# Altium schematic symbol library VARICAP,Dual,CC,SOT-23.Schlib: 1 symbol
Pins are listed as number, name and electrical type; pins without a type are passive.

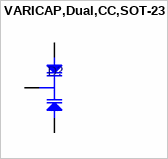
[diagram p0: symbol VARICAP,Dual,CC,SOT-23]

## VARICAP,Dual,CC,SOT-23
designator D?
pins: 1 A1, 2 A2, 3 C